# Altium schematic symbol library PCA9956A.Schlib: 1 symbol
Pins are listed as number, name and electrical type; pins without a type are passive.

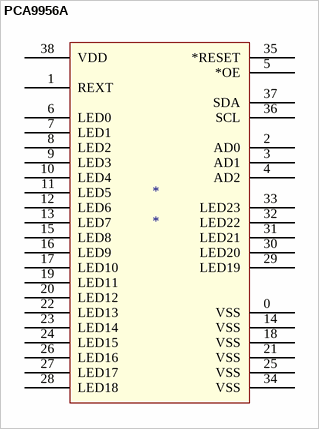
[diagram p0: symbol PCA9956A]

## PCA9956A
designator *
pins: 0 VSS, 1 REXT, 2 AD0, 3 AD1, 4 AD2, 5 *OE, 6 LED0, 7 LED1, 8 LED2, 9 LED3, 10 LED4, 11 LED5, 12 LED6, 13 LED7, 14 VSS, 15 LED8, 16 LED9, 17 LED10, 18 VSS, 19 LED11, 20 LED12, 21 VSS, 22 LED13, 23 LED14, 24 LED15, 25 VSS, 26 LED16, 27 LED17, 28 LED18, 29 LED19, 30 LED20, 31 LED21, 32 LED22, 33 LED23, 34 VSS, 35 *RESET, 36 SCL, 37 SDA, 38 VDD